# Altium footprint library bk_pcb.PcbLib: 19 footprints (part 1 of 2)
Each footprint in its own frame and in the unit in brackets; x right, y up, seen from the top. Pads: shape width x height; smd on the part's side, far side on the other; paste and mask are expansions set on the pad; w line width, h text height; cw(c..) or ccw(c..) is an arc to the next point about the centre after c.
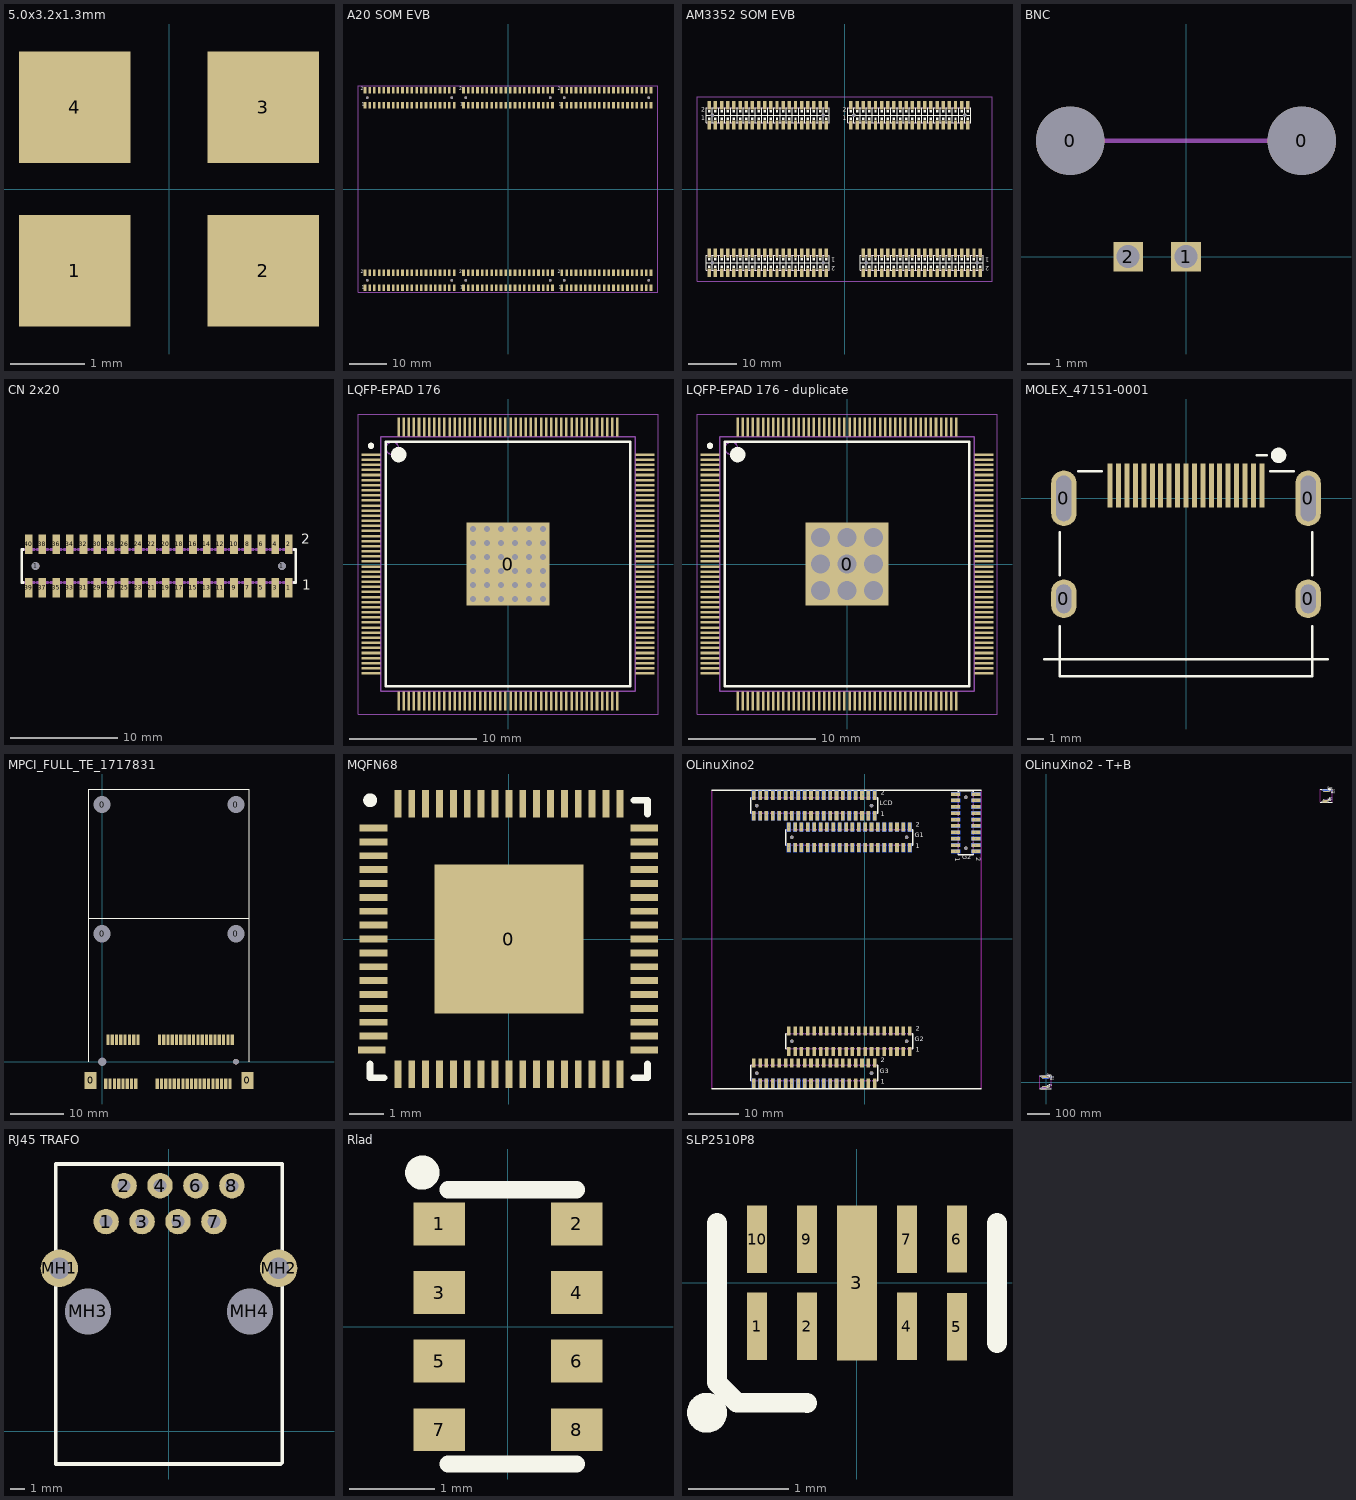
[diagram p0: the footprints below, top view; thin cyan lines are the x and y axes]

## 5.0x3.2x1.3mm [mm] "XTALL"
pads (4):
  rect 1.5x1.5 smd: 1(-1.27,-1.1) 2(1.27,-1.1) 3(1.27,1.1) 4(-1.27,1.1)
3D body: height 1.3, standoff 0, extent -2.5,-1.6 2.5,1.6

## A20 SOM EVB [mil] "A20 SOM EVB"
pads (252):
  round 28 hole 28: 1(-1500,-975) 1(-1500,975) 1(-600,-975) 1(-600,975) 1(-450,-975) 1(-450,975) 1(450,-975) 1(450,975) 1(600,-975) 1(600,975) 1(1500,-975) 1(1500,975)
  rect 28x71 smd: 1-1(-1525,-1055) 1-2(-1525,-895) 1-3(-1475,-1055) 1-4(-1475,-895) 1-5(-1425,-1055) 1-6(-1425,-895) 1-7(-1375,-1055) 1-8(-1375,-895) 1-9(-1325,-1055) 1-10(-1325,-895) 1-11(-1275,-1055) 1-12(-1275,-895) 1-13(-1225,-1055) 1-14(-1225,-895) 1-15(-1175,-1055) 1-16(-1175,-895) 1-17(-1125,-1055) 1-18(-1125,-895) 1-19(-1075,-1055) 1-20(-1075,-895) 1-21(-1025,-1055) 1-22(-1025,-895) 1-23(-975,-1055) 1-24(-975,-895) 1-25(-925,-1055) 1-26(-925,-895) 1-27(-875,-1055) 1-28(-875,-895) 1-29(-825,-1055) 1-30(-825,-895) 1-31(-775,-1055) 1-32(-775,-895) 1-33(-725,-1055) 1-34(-725,-895) 1-35(-675,-1055) 1-36(-675,-895) 1-37(-625,-1055) 1-38(-625,-895) 1-39(-575,-1055) 1-40(-575,-895) 2-1(-475,-1055) 2-2(-475,-895) 2-3(-425,-1055) 2-4(-425,-895) 2-5(-375,-1055) 2-6(-375,-895) 2-7(-325,-1055) 2-8(-325,-895) 2-9(-275,-1055) 2-10(-275,-895) 2-11(-225,-1055) 2-12(-225,-895) 2-13(-175,-1055) 2-14(-175,-895) 2-15(-125,-1055) 2-16(-125,-895) 2-17(-75,-1055) 2-18(-75,-895) 2-19(-25,-1055) 2-20(-25,-895) 2-21(25,-1055) 2-22(25,-895) 2-23(75,-1055) 2-24(75,-895) 2-25(125,-1055) 2-26(125,-895) 2-27(175,-1055) 2-28(175,-895) 2-29(225,-1055) 2-30(225,-895) 2-31(275,-1055) 2-32(275,-895) 2-33(325,-1055) 2-34(325,-895) 2-35(375,-1055) 2-36(375,-895) 2-37(425,-1055) 2-38(425,-895) 2-39(475,-1055) 2-40(475,-895) 3-1(575,895) 3-2(575,1055) 3-3(625,895) 3-4(625,1055) 3-5(675,895) 3-6(675,1055) 3-7(725,895) 3-8(725,1055) 3-9(775,895) 3-10(775,1055) 3-11(825,895) 3-12(825,1055) 3-13(875,895) 3-14(875,1055) 3-15(925,895) 3-16(925,1055) 3-17(975,895) 3-18(975,1055) 3-19(1025,895) 3-20(1025,1055) 3-21(1075,895) 3-22(1075,1055) 3-23(1125,895) 3-24(1125,1055) 3-25(1175,895) 3-26(1175,1055) 3-27(1225,895) 3-28(1225,1055) 3-29(1275,895) 3-30(1275,1055) 3-31(1325,895) 3-32(1325,1055) 3-33(1375,895) 3-34(1375,1055) 3-35(1425,895) 3-36(1425,1055) 3-37(1475,895) 3-38(1475,1055) 3-39(1525,895) 3-40(1525,1055) 4-1(-475,895) 4-2(-475,1055) 4-3(-425,895) 4-4(-425,1055) 4-5(-375,895) 4-6(-375,1055) 4-7(-325,895) 4-8(-325,1055) 4-9(-275,895) 4-10(-275,1055) 4-11(-225,895) 4-12(-225,1055) 4-13(-175,895) 4-14(-175,1055) 4-15(-125,895) 4-16(-125,1055) 4-17(-75,895) 4-18(-75,1055) 4-19(-25,895) 4-20(-25,1055) 4-21(25,895) 4-22(25,1055) 4-23(75,895) 4-24(75,1055) 4-25(125,895) 4-26(125,1055) 4-27(175,895) 4-28(175,1055) 4-29(225,895) 4-30(225,1055) 4-31(275,895) 4-32(275,1055) 4-33(325,895) 4-34(325,1055) 4-35(375,895) 4-36(375,1055) 4-37(425,895) 4-38(425,1055) 4-39(475,895) 4-40(475,1055) 5-1(-1525,895) 5-2(-1525,1055) 5-3(-1475,895) 5-4(-1475,1055) 5-5(-1425,895) 5-6(-1425,1055) 5-7(-1375,895) 5-8(-1375,1055) 5-9(-1325,895) 5-10(-1325,1055) 5-11(-1275,895) 5-12(-1275,1055) 5-13(-1225,895) 5-14(-1225,1055) 5-15(-1175,895) 5-16(-1175,1055) 5-17(-1125,895) 5-18(-1125,1055) 5-19(-1075,895) 5-20(-1075,1055) 5-21(-1025,895) 5-22(-1025,1055) 5-23(-975,895) 5-24(-975,1055) 5-25(-925,895) 5-26(-925,1055) 5-27(-875,895) 5-28(-875,1055) 5-29(-825,895) 5-30(-825,1055) 5-31(-775,895) 5-32(-775,1055) 5-33(-725,895) 5-34(-725,1055) 5-35(-675,895) 5-36(-675,1055) 5-37(-625,895) 5-38(-625,1055) 5-39(-575,895) 5-40(-575,1055) L-1(575,-1055) L-2(575,-895) L-3(625,-1055) L-4(625,-895) L-5(675,-1055) L-6(675,-895) L-7(725,-1055) L-8(725,-895) L-9(775,-1055) L-10(775,-895) L-11(825,-1055) L-12(825,-895) L-13(875,-1055) L-14(875,-895) L-15(925,-1055) L-16(925,-895) L-17(975,-1055) L-18(975,-895) L-19(1025,-1055) L-20(1025,-895) L-21(1075,-1055) L-22(1075,-895) L-23(1125,-1055) L-24(1125,-895) L-25(1175,-1055) L-26(1175,-895) L-27(1225,-1055) L-28(1225,-895) L-29(1275,-1055) L-30(1275,-895) L-31(1325,-1055) L-32(1325,-895) L-33(1375,-1055) L-34(1375,-895) L-35(1425,-1055) L-36(1425,-895) L-37(1475,-1055) L-38(1475,-895) L-39(1525,-1055) L-40(1525,-895)
Top Overlay:
  text "2" at 530,1035 h62
  text "1" at 540,870 h62
  text "2" at -520,1035 h62
  text "1" at -510,870 h62
  text "2" at -1570,1035 h62
  text "1" at -1560,870 h62
  text "2" at -1570,-915 h62
  text "1" at -1560,-1080 h62
  text "2" at -520,-915 h62
  text "1" at -510,-1080 h62
  text "1" at 540,-1080 h62
  text "2" at 530,-915 h62
Mechanical 16:
  lines w10: -1600,-1100 -1600,1100 1600,1100 1600,-1100 -1600,-1100
  text "A20 GPIO1" at -1525,-850 h62
  text "A20 GPIO4" at -475,800 h62
  text "A20 GPIO3" at 575,800 h62
  text "A20 GPIO2" at -475,-850 h62
  text "A20 SOM EVB" at -732.49,-100 h250
  text "A20 GPIO5" at -1525,800 h62
  text "A20 LCD" at 575,-850 h62

## AM3352 SOM EVB [mil] "AM3352-SOM-EVB"
pads (168):
  round 28 hole 28: 1(-1075,-600) 1(-1075,600) 1(-175,-600) 1(-175,600) 1(75,600) 1(175,-600) 1(975,600) 1(1075,-600)
  rect 28x71 smd: 1-1(-1100,520) 1-2(-1100,680) 1-3(-1050,520) 1-4(-1050,680) 1-5(-1000,520) 1-6(-1000,680) 1-7(-950,520) 1-8(-950,680) 1-9(-900,520) 1-10(-900,680) 1-11(-850,520) 1-12(-850,680) 1-13(-800,520) 1-14(-800,680) 1-15(-750,520) 1-16(-750,680) 1-17(-700,520) 1-18(-700,680) 1-19(-650,520) 1-20(-650,680) 1-21(-600,520) 1-22(-600,680) 1-23(-550,520) 1-24(-550,680) 1-25(-500,520) 1-26(-500,680) 1-27(-450,520) 1-28(-450,680) 1-29(-400,520) 1-30(-400,680) 1-31(-350,520) 1-32(-350,680) 1-33(-300,520) 1-34(-300,680) 1-35(-250,520) 1-36(-250,680) 1-37(-200,520) 1-38(-200,680) 1-39(-150,520) 1-40(-150,680) 2-1(50,520) 2-2(50,680) 2-3(100,520) 2-4(100,680) 2-5(150,520) 2-6(150,680) 2-7(200,520) 2-8(200,680) 2-9(250,520) 2-10(250,680) 2-11(300,520) 2-12(300,680) 2-13(350,520) 2-14(350,680) 2-15(400,520) 2-16(400,680) 2-17(450,520) 2-18(450,680) 2-19(500,520) 2-20(500,680) 2-21(550,520) 2-22(550,680) 2-23(600,520) 2-24(600,680) 2-25(650,520) 2-26(650,680) 2-27(700,520) 2-28(700,680) 2-29(750,520) 2-30(750,680) 2-31(800,520) 2-32(800,680) 2-33(850,520) 2-34(850,680) 2-35(900,520) 2-36(900,680) 2-37(950,520) 2-38(950,680) 2-39(1000,520) 2-40(1000,680) 3-1(1100,-520) 3-2(1100,-680) 3-3(1050,-520) 3-4(1050,-680) 3-5(1000,-520) 3-6(1000,-680) 3-7(950,-520) 3-8(950,-680) 3-9(900,-520) 3-10(900,-680) 3-11(850,-520) 3-12(850,-680) 3-13(800,-520) 3-14(800,-680) 3-15(750,-520) 3-16(750,-680) 3-17(700,-520) 3-18(700,-680) 3-19(650,-520) 3-20(650,-680) 3-21(600,-520) 3-22(600,-680) 3-23(550,-520) 3-24(550,-680) 3-25(500,-520) 3-26(500,-680) 3-27(450,-520) 3-28(450,-680) 3-29(400,-520) 3-30(400,-680) 3-31(350,-520) 3-32(350,-680) 3-33(300,-520) 3-34(300,-680) 3-35(250,-520) 3-36(250,-680) 3-37(200,-520) 3-38(200,-680) 3-39(150,-520) 3-40(150,-680) 4-1(-150,-520) 4-2(-150,-680) 4-3(-200,-520) 4-4(-200,-680) 4-5(-250,-520) 4-6(-250,-680) 4-7(-300,-520) 4-8(-300,-680) 4-9(-350,-520) 4-10(-350,-680) 4-11(-400,-520) 4-12(-400,-680) 4-13(-450,-520) 4-14(-450,-680) 4-15(-500,-520) 4-16(-500,-680) 4-17(-550,-520) 4-18(-550,-680) 4-19(-600,-520) 4-20(-600,-680) 4-21(-650,-520) 4-22(-650,-680) 4-23(-700,-520) 4-24(-700,-680) 4-25(-750,-520) 4-26(-750,-680) 4-27(-800,-520) 4-28(-800,-680) 4-29(-850,-520) 4-30(-850,-680) 4-31(-900,-520) 4-32(-900,-680) 4-33(-950,-520) 4-34(-950,-680) 4-35(-1000,-520) 4-36(-1000,-680) 4-37(-1050,-520) 4-38(-1050,-680) 4-39(-1100,-520) 4-40(-1100,-680)
Top Overlay:
  drawing of 724 lines, arcs and shapes, not listed
  text "2" at -75,-615 h62
  text "1" at -75,-545 h62
  text "2" at 1175,-615 h62
  text "1" at 1175,-545 h62
  text "2" at -15,615 h62
  text "1" at -15,545 h62
  text "2" at -1165,615 h62
  text "1" at -1165,545 h62
Mechanical 2:
  text "AM_CON-GPIO3" at -550,-475 h62
  text "AM_CON-GPIO2" at 700,-475 h62
  text "AM_CON-GPIO1" at 450,475 h62
  text "AM_CON-LCD" at -750,475 h62
Mechanical 4:
  text "GPH127SMT-02X20(PA-V16X-2X20-LF)" at -1100,-475 h24.8
  text "GPH127SMT-02X20(PA-V16X-2X20-LF)" at 150,-475 h24.8
  text "GPH127SMT-02X20(PA-V16X-2X20-LF)" at 1000,475 h24.8
Mechanical 16:
  drawing of 164 lines, arcs and shapes, not listed
  text "AM3352 SOM EVB" at -814.67,-100 h200

## BNC [mm]
pads (4):
  round 3 hole 3: 0(-5.08,5.08) 0(5.08,5.08)
  rect 1.3x1.3 hole 1: 1(0,0) 2(-2.54,0)
Mechanical 1:
  lines w0.2: -5.08,5.08 5.08,5.08
3D body: height 15.8, standoff -4.3, extent -7.35,-2 7.35,33.15

## CN 2x20 [mil] "1.27 mm"
pads (42):
  round 28 hole 28: 1(-49389.76,-49350.39) 1(-48489.76,-49350.39)
  rect 28x71 smd: 1(-48464.76,-49430.39) 2(-48464.76,-49270.39) 3(-48514.76,-49430.39) 4(-48514.76,-49270.39) 5(-48564.76,-49430.39) 6(-48564.76,-49270.39) 7(-48614.76,-49430.39) 8(-48614.76,-49270.39) 9(-48664.76,-49430.39) 10(-48664.76,-49270.39) 11(-48714.76,-49430.39) 12(-48714.76,-49270.39) 13(-48764.76,-49430.39) 14(-48764.76,-49270.39) 15(-48814.76,-49430.39) 16(-48814.76,-49270.39) 17(-48864.76,-49430.39) 18(-48864.76,-49270.39) 19(-48914.76,-49430.39) 20(-48914.76,-49270.39) 21(-48964.76,-49430.39) 22(-48964.76,-49270.39) 23(-49014.76,-49430.39) 24(-49014.76,-49270.39) 25(-49064.76,-49430.39) 26(-49064.76,-49270.39) 27(-49114.76,-49430.39) 28(-49114.76,-49270.39) 29(-49164.76,-49430.39) 30(-49164.76,-49270.39) 31(-49214.76,-49430.39) 32(-49214.76,-49270.39) 33(-49264.76,-49430.39) 34(-49264.76,-49270.39) 35(-49314.76,-49430.39) 36(-49314.76,-49270.39) 37(-49364.76,-49430.39) 38(-49364.76,-49270.39) 39(-49414.76,-49430.39) 40(-49414.76,-49270.39)
Top Overlay:
  lines w10: -49434.76,-49410.39 -49439.76,-49410.39 -49439.76,-49350.39 -49439.76,-49290.39 -49434.76,-49290.39 ; -48444.76,-49410.39 -48439.76,-49410.39 -48439.76,-49350.39 -48439.76,-49290.39 -48444.76,-49290.39
  text "2" at -48418.54,-49282.48 h62
  text "1" at -48416.57,-49449.8 h62
Mechanical 16:
  lines w10: -49434.76,-49410.39 -49394.76,-49410.39 ; -49434.76,-49290.39 -49394.76,-49290.39 ; -49384.76,-49410.39 -49344.76,-49410.39 ; -49384.76,-49290.39 -49344.76,-49290.39 ; -49334.76,-49410.39 -49294.76,-49410.39 ; -49334.76,-49290.39 -49294.76,-49290.39 ; -49284.76,-49410.39 -49244.76,-49410.39 ; -49284.76,-49290.39 -49244.76,-49290.39 ; -49234.76,-49410.39 -49194.76,-49410.39 ; -49234.76,-49290.39 -49194.76,-49290.39 ; -49184.76,-49410.39 -49144.76,-49410.39 ; -49184.76,-49290.39 -49144.76,-49290.39 ; -49134.76,-49410.39 -49094.76,-49410.39 ; -49134.76,-49290.39 -49094.76,-49290.39 ; -49084.76,-49410.39 -49044.76,-49410.39 ; -49084.76,-49290.39 -49044.76,-49290.39 ; -49034.76,-49410.39 -48994.76,-49410.39 ; -49034.76,-49290.39 -48994.76,-49290.39 ; -48984.76,-49410.39 -48944.76,-49410.39 ; -48984.76,-49290.39 -48944.76,-49290.39 ; -48934.76,-49410.39 -48894.76,-49410.39 ; -48934.76,-49290.39 -48894.76,-49290.39 ; -48884.76,-49410.39 -48844.76,-49410.39 ; -48884.76,-49290.39 -48844.76,-49290.39 ; -48834.76,-49410.39 -48794.76,-49410.39 ; -48834.76,-49290.39 -48794.76,-49290.39 ; -48784.76,-49410.39 -48744.76,-49410.39 ; -48784.76,-49290.39 -48744.76,-49290.39 ; -48734.76,-49410.39 -48694.76,-49410.39 ; -48734.76,-49290.39 -48694.76,-49290.39 ; -48684.76,-49410.39 -48644.76,-49410.39 ; -48684.76,-49290.39 -48644.76,-49290.39 ; -48634.76,-49410.39 -48594.76,-49410.39 ; -48634.76,-49290.39 -48594.76,-49290.39 ; -48584.76,-49410.39 -48544.76,-49410.39 ; -48584.76,-49290.39 -48544.76,-49290.39 ; -48534.76,-49410.39 -48494.76,-49410.39 ; -48534.76,-49290.39 -48494.76,-49290.39 ; -48484.76,-49410.39 -48444.76,-49410.39 ; -48484.76,-49290.39 -48444.76,-49290.39

## LQFP176 [mil]

## LQFP-EPAD 176 [mm] "TSQFP, 176-Leads, Body 20,00x20,00mm, Pitch 0,40mm, Thermal Pad 6,50x6,50mm, IPC Medium Density"
height 1.6
pads (177):
  rect 6.5x6.5 smd: 0(0,0)
  rect 1.5x0.2 smd: 1(-10.775,8.6) 2(-10.775,8.2) 3(-10.775,7.8) 4(-10.775,7.4) 5(-10.775,7) 6(-10.775,6.6) 7(-10.775,6.2) 8(-10.775,5.8) 9(-10.775,5.4) 10(-10.775,5) 11(-10.775,4.6) 12(-10.775,4.2) 13(-10.775,3.8) 14(-10.775,3.4) 15(-10.775,3) 16(-10.775,2.6) 17(-10.775,2.2) 18(-10.775,1.8) 19(-10.775,1.4) 20(-10.775,1) 21(-10.775,0.6) 22(-10.775,0.2) 23(-10.775,-0.2) 24(-10.775,-0.6) 25(-10.775,-1) 26(-10.775,-1.4) 27(-10.775,-1.8) 28(-10.775,-2.2) 29(-10.775,-2.6) 30(-10.775,-3) 31(-10.775,-3.4) 32(-10.775,-3.8) 33(-10.775,-4.2) 34(-10.775,-4.6) 35(-10.775,-5) 36(-10.775,-5.4) 37(-10.775,-5.8) 38(-10.775,-6.2) 39(-10.775,-6.6) 40(-10.775,-7) 41(-10.775,-7.4) 42(-10.775,-7.8) 43(-10.775,-8.2) 44(-10.775,-8.6) 89(10.775,-8.6) 90(10.775,-8.2) 91(10.775,-7.8) 92(10.775,-7.4) 93(10.775,-7) 94(10.775,-6.6) 95(10.775,-6.2) 96(10.775,-5.8) 97(10.775,-5.4) 98(10.775,-5) 99(10.775,-4.6) 100(10.775,-4.2) 101(10.775,-3.8) 102(10.775,-3.4) 103(10.775,-3) 104(10.775,-2.6) 105(10.775,-2.2) 106(10.775,-1.8) 107(10.775,-1.4) 108(10.775,-1) 109(10.775,-0.6) 110(10.775,-0.2) 111(10.775,0.2) 112(10.775,0.6) 113(10.775,1) 114(10.775,1.4) 115(10.775,1.8) 116(10.775,2.2) 117(10.775,2.6) 118(10.775,3) 119(10.775,3.4) 120(10.775,3.8) 121(10.775,4.2) 122(10.775,4.6) 123(10.775,5) 124(10.775,5.4) 125(10.775,5.8) 126(10.775,6.2) 127(10.775,6.6) 128(10.775,7) 129(10.775,7.4) 130(10.775,7.8) 131(10.775,8.2) 132(10.775,8.6)
  rect 0.2x1.5 smd: 45(-8.6,-10.775) 46(-8.2,-10.775) 47(-7.8,-10.775) 48(-7.4,-10.775) 49(-7,-10.775) 50(-6.6,-10.775) 51(-6.2,-10.775) 52(-5.8,-10.775) 53(-5.4,-10.775) 54(-5,-10.775) 55(-4.6,-10.775) 56(-4.2,-10.775) 57(-3.8,-10.775) 58(-3.4,-10.775) 59(-3,-10.775) 60(-2.6,-10.775) 61(-2.2,-10.775) 62(-1.8,-10.775) 63(-1.4,-10.775) 64(-1,-10.775) 65(-0.6,-10.775) 66(-0.2,-10.775) 67(0.2,-10.775) 68(0.6,-10.775) 69(1,-10.775) 70(1.4,-10.775) 71(1.8,-10.775) 72(2.2,-10.775) 73(2.6,-10.775) 74(3,-10.775) 75(3.4,-10.775) 76(3.8,-10.775) 77(4.2,-10.775) 78(4.6,-10.775) 79(5,-10.775) 80(5.4,-10.775) 81(5.8,-10.775) 82(6.2,-10.775) 83(6.6,-10.775) 84(7,-10.775) 85(7.4,-10.775) 86(7.8,-10.775) 87(8.2,-10.775) 88(8.6,-10.775) 133(8.6,10.775) 134(8.2,10.775) 135(7.8,10.775) 136(7.4,10.775) 137(7,10.775) 138(6.6,10.775) 139(6.2,10.775) 140(5.8,10.775) 141(5.4,10.775) 142(5,10.775) 143(4.6,10.775) 144(4.2,10.775) 145(3.8,10.775) 146(3.4,10.775) 147(3,10.775) 148(2.6,10.775) 149(2.2,10.775) 150(1.8,10.775) 151(1.4,10.775) 152(1,10.775) 153(0.6,10.775) 154(0.2,10.775) 155(-0.2,10.775) 156(-0.6,10.775) 157(-1,10.775) 158(-1.4,10.775) 159(-1.8,10.775) 160(-2.2,10.775) 161(-2.6,10.775) 162(-3,10.775) 163(-3.4,10.775) 164(-3.8,10.775) 165(-4.2,10.775) 166(-4.6,10.775) 167(-5,10.775) 168(-5.4,10.775) 169(-5.8,10.775) 170(-6.2,10.775) 171(-6.6,10.775) 172(-7,10.775) 173(-7.4,10.775) 174(-7.8,10.775) 175(-8.2,10.775) 176(-8.6,10.775)
via -2.75,2.75 diameter 0.8 hole 0.5
via -1.65,2.75 diameter 0.8 hole 0.5
via -0.55,2.75 diameter 0.8 hole 0.5
via 0.55,2.75 diameter 0.8 hole 0.5
via 1.65,2.75 diameter 0.8 hole 0.5
via 2.75,2.75 diameter 0.8 hole 0.5
via -2.75,1.65 diameter 0.8 hole 0.5
via -1.65,1.65 diameter 0.8 hole 0.5
via -0.55,1.65 diameter 0.8 hole 0.5
via 0.55,1.65 diameter 0.8 hole 0.5
via 1.65,1.65 diameter 0.8 hole 0.5
via 2.75,1.65 diameter 0.8 hole 0.5
via -2.75,0.55 diameter 0.8 hole 0.5
via -1.65,0.55 diameter 0.8 hole 0.5
via -0.55,0.55 diameter 0.8 hole 0.5
via 0.55,0.55 diameter 0.8 hole 0.5
via 1.65,0.55 diameter 0.8 hole 0.5
via 2.75,0.55 diameter 0.8 hole 0.5
via -2.75,-0.55 diameter 0.8 hole 0.5
via -1.65,-0.55 diameter 0.8 hole 0.5
via -0.55,-0.55 diameter 0.8 hole 0.5
via 0.55,-0.55 diameter 0.8 hole 0.5
via 1.65,-0.55 diameter 0.8 hole 0.5
via 2.75,-0.55 diameter 0.8 hole 0.5
via -2.75,-1.65 diameter 0.8 hole 0.5
via -1.65,-1.65 diameter 0.8 hole 0.5
via -0.55,-1.65 diameter 0.8 hole 0.5
via 0.55,-1.65 diameter 0.8 hole 0.5
via 1.65,-1.65 diameter 0.8 hole 0.5
via 2.75,-1.65 diameter 0.8 hole 0.5
via -2.75,-2.75 diameter 0.8 hole 0.5
via -1.65,-2.75 diameter 0.8 hole 0.5
via -0.55,-2.75 diameter 0.8 hole 0.5
via 0.55,-2.75 diameter 0.8 hole 0.5
via 1.65,-2.75 diameter 0.8 hole 0.5
via 2.75,-2.75 diameter 0.8 hole 0.5
Top Overlay:
  circle w0.25: c-10.775,9.3 r0.125
  circle w0.6: c-8.6,8.6 r0.3
  lines w0.2: -9.6,-9.6 -9.6,9.6 9.6,9.6 9.6,-9.6 -9.6,-9.6
Mechanical 13:
  circle w0.1: c-9.1,9.1 r0.5
  lines w0.1: -10,-10 -10,10 10,10 10,-10 -10,-10
Mechanical 15:
  lines w0.05: -11.8,-11.8 -11.8,11.8 11.8,11.8 11.8,-11.8 -11.8,-11.8
  lines w0.1: -0.5,0 0.5,0 ; 0,-0.5 0,0.5
3D body: height 1.6, standoff 0.05, extent -10,-10 10,10

## LQFP-EPAD 176 - duplicate [mm] "TSQFP, 176-Leads, Body 20,00x20,00mm, Pitch 0,40mm, Thermal Pad 6,50x6,50mm, IPC Medium Density"
height 1.6
pads (177):
  rect 6.5x6.5 smd: 0(0,0)
  rect 1.5x0.2 smd: 1(-10.775,8.6) 2(-10.775,8.2) 3(-10.775,7.8) 4(-10.775,7.4) 5(-10.775,7) 6(-10.775,6.6) 7(-10.775,6.2) 8(-10.775,5.8) 9(-10.775,5.4) 10(-10.775,5) 11(-10.775,4.6) 12(-10.775,4.2) 13(-10.775,3.8) 14(-10.775,3.4) 15(-10.775,3) 16(-10.775,2.6) 17(-10.775,2.2) 18(-10.775,1.8) 19(-10.775,1.4) 20(-10.775,1) 21(-10.775,0.6) 22(-10.775,0.2) 23(-10.775,-0.2) 24(-10.775,-0.6) 25(-10.775,-1) 26(-10.775,-1.4) 27(-10.775,-1.8) 28(-10.775,-2.2) 29(-10.775,-2.6) 30(-10.775,-3) 31(-10.775,-3.4) 32(-10.775,-3.8) 33(-10.775,-4.2) 34(-10.775,-4.6) 35(-10.775,-5) 36(-10.775,-5.4) 37(-10.775,-5.8) 38(-10.775,-6.2) 39(-10.775,-6.6) 40(-10.775,-7) 41(-10.775,-7.4) 42(-10.775,-7.8) 43(-10.775,-8.2) 44(-10.775,-8.6) 89(10.775,-8.6) 90(10.775,-8.2) 91(10.775,-7.8) 92(10.775,-7.4) 93(10.775,-7) 94(10.775,-6.6) 95(10.775,-6.2) 96(10.775,-5.8) 97(10.775,-5.4) 98(10.775,-5) 99(10.775,-4.6) 100(10.775,-4.2) 101(10.775,-3.8) 102(10.775,-3.4) 103(10.775,-3) 104(10.775,-2.6) 105(10.775,-2.2) 106(10.775,-1.8) 107(10.775,-1.4) 108(10.775,-1) 109(10.775,-0.6) 110(10.775,-0.2) 111(10.775,0.2) 112(10.775,0.6) 113(10.775,1) 114(10.775,1.4) 115(10.775,1.8) 116(10.775,2.2) 117(10.775,2.6) 118(10.775,3) 119(10.775,3.4) 120(10.775,3.8) 121(10.775,4.2) 122(10.775,4.6) 123(10.775,5) 124(10.775,5.4) 125(10.775,5.8) 126(10.775,6.2) 127(10.775,6.6) 128(10.775,7) 129(10.775,7.4) 130(10.775,7.8) 131(10.775,8.2) 132(10.775,8.6)
  rect 0.2x1.5 smd: 45(-8.6,-10.775) 46(-8.2,-10.775) 47(-7.8,-10.775) 48(-7.4,-10.775) 49(-7,-10.775) 50(-6.6,-10.775) 51(-6.2,-10.775) 52(-5.8,-10.775) 53(-5.4,-10.775) 54(-5,-10.775) 55(-4.6,-10.775) 56(-4.2,-10.775) 57(-3.8,-10.775) 58(-3.4,-10.775) 59(-3,-10.775) 60(-2.6,-10.775) 61(-2.2,-10.775) 62(-1.8,-10.775) 63(-1.4,-10.775) 64(-1,-10.775) 65(-0.6,-10.775) 66(-0.2,-10.775) 67(0.2,-10.775) 68(0.6,-10.775) 69(1,-10.775) 70(1.4,-10.775) 71(1.8,-10.775) 72(2.2,-10.775) 73(2.6,-10.775) 74(3,-10.775) 75(3.4,-10.775) 76(3.8,-10.775) 77(4.2,-10.775) 78(4.6,-10.775) 79(5,-10.775) 80(5.4,-10.775) 81(5.8,-10.775) 82(6.2,-10.775) 83(6.6,-10.775) 84(7,-10.775) 85(7.4,-10.775) 86(7.8,-10.775) 87(8.2,-10.775) 88(8.6,-10.775) 133(8.6,10.775) 134(8.2,10.775) 135(7.8,10.775) 136(7.4,10.775) 137(7,10.775) 138(6.6,10.775) 139(6.2,10.775) 140(5.8,10.775) 141(5.4,10.775) 142(5,10.775) 143(4.6,10.775) 144(4.2,10.775) 145(3.8,10.775) 146(3.4,10.775) 147(3,10.775) 148(2.6,10.775) 149(2.2,10.775) 150(1.8,10.775) 151(1.4,10.775) 152(1,10.775) 153(0.6,10.775) 154(0.2,10.775) 155(-0.2,10.775) 156(-0.6,10.775) 157(-1,10.775) 158(-1.4,10.775) 159(-1.8,10.775) 160(-2.2,10.775) 161(-2.6,10.775) 162(-3,10.775) 163(-3.4,10.775) 164(-3.8,10.775) 165(-4.2,10.775) 166(-4.6,10.775) 167(-5,10.775) 168(-5.4,10.775) 169(-5.8,10.775) 170(-6.2,10.775) 171(-6.6,10.775) 172(-7,10.775) 173(-7.4,10.775) 174(-7.8,10.775) 175(-8.2,10.775) 176(-8.6,10.775)
via 2.1,-2.1 diameter 2 hole 1.5
via 2.1,0 diameter 2 hole 1.5
via 2.1,2.1 diameter 2 hole 1.5
via 0,2.1 diameter 2 hole 1.5
via 0,0 diameter 2 hole 1.5
via 0,-2.1 diameter 2 hole 1.5
via -2.1,-2.1 diameter 2 hole 1.5
via -2.1,0 diameter 2 hole 1.5
via -2.1,2.1 diameter 2 hole 1.5
Top Overlay:
  circle w0.25: c-10.775,9.3 r0.125
  circle w0.6: c-8.6,8.6 r0.3
  lines w0.2: -9.6,-9.6 -9.6,9.6 9.6,9.6 9.6,-9.6 -9.6,-9.6
Mechanical 13:
  circle w0.1: c-9.1,9.1 r0.5
  lines w0.1: -10,-10 -10,10 10,10 10,-10 -10,-10
Mechanical 15:
  lines w0.05: -11.8,-11.8 -11.8,11.8 11.8,11.8 11.8,-11.8 -11.8,-11.8
  lines w0.1: -0.5,0 0.5,0 ; 0,-0.5 0,0.5
3D body: height 1.6, standoff 0.05, extent -10,-10 10,10

## MOLEX_47151-0001 [mm] "Molex HDMI right angle header assembly"
height 6.2
pads (23):
  oval 1.5x2.3 hole 0.9 slot 1.7 at 90 deg mask+0.07: 0(-7.25,-5.96) 0(7.25,-5.96)
  oval 1.5x3.3 hole 0.9 slot 2.7 at 90 deg mask+0.07: 0(-7.25,0) 0(7.25,0)
  rect 0.3x2.6 smd mask+0.07: 1(4.5,0.76) 2(4,0.76) 3(3.5,0.76) 4(3,0.76) 5(2.5,0.76) 6(2,0.76) 7(1.5,0.76) 8(1,0.76) 9(0.5,0.76) 10(0,0.76) 11(-0.5,0.76) 12(-1,0.76) 13(-1.5,0.76) 14(-2,0.76) 15(-2.5,0.76) 16(-3,0.76) 17(-3.5,0.76) 18(-4,0.76) 19(-4.5,0.76)
Top Overlay:
  circle w0.5: c5.494,2.55 r0.206
  lines w0.15: -8.4,-9.55 8.4,-9.55 ; -7.5,-7.6 -7.5,-10.55 7.5,-10.55 7.5,-7.6 ; -7.5,-4.55 -7.5,-2 ; -6.4,1.6 -5,1.6 ; 4.2,2.55 4.8,2.55 ; 5,1.6 6.4,1.6 ; 7.5,-4.55 7.5,-2
3D body: height 6.18, standoff -2.2, extent -7.5,-10.55 7.5,1.6

## MPCI_FULL_TE_1717831 [mm] "Mini PCI-express full-length card"
height 4
pads (60):
  rect 2.3x3.2 smd mask+0.07: 0(-2.15,-3.5) 0(27.15,-3.5)
  round 1 hole 1.6 unplated mask+0.07: 0(0,0)
  round 2 hole 3.2 unplated mask+0.07: 0(0,23.9) 0(0,48.05) 0(25,23.9) 0(25,48.05)
  round 1 hole 1.1 unplated mask+0.07: 0(25,0)
  rect 0.6x2 smd mask+0.07: 1(0.7,-4.1) 2(1.1,4.1) 3(1.5,-4.1) 4(1.9,4.1) 5(2.3,-4.1) 6(2.7,4.1) 7(3.1,-4.1) 8(3.5,4.1) 9(3.9,-4.1) 10(4.3,4.1) 11(4.7,-4.1) 12(5.1,4.1) 13(5.5,-4.1) 14(5.9,4.1) 15(6.3,-4.1) 16(6.7,4.1) 17(10.3,-4.1) 18(10.7,4.1) 19(11.1,-4.1) 20(11.5,4.1) 21(11.9,-4.1) 22(12.3,4.1) 23(12.7,-4.1) 24(13.1,4.1) 25(13.5,-4.1) 26(13.9,4.1) 27(14.3,-4.1) 28(14.7,4.1) 29(15.1,-4.1) 30(15.5,4.1) 31(15.9,-4.1) 32(16.3,4.1) 33(16.7,-4.1) 34(17.1,4.1) 35(17.5,-4.1) 36(17.9,4.1) 37(18.3,-4.1) 38(18.7,4.1) 39(19.1,-4.1) 40(19.5,4.1) 41(19.9,-4.1) 42(20.3,4.1) 43(20.7,-4.1) 44(21.1,4.1) 45(21.5,-4.1) 46(21.9,4.1) 47(22.3,-4.1) 48(22.7,4.1) 49(23.1,-4.1) 50(23.5,4.1) 51(23.9,-4.1) 52(24.3,4.1)
Top Overlay:
  lines w0.2: -2.5,50.95 27.5,50.95
  lines w0.203: -2.5,0 -2.5,50.95 ; -2.5,26.8 27.5,26.8 ; 5.4,26.8 13.475,26.8 ; 27.5,0 27.5,50.95
3D body: height 3.95, standoff -0.75, extent -2.5,-5 27.5,4.5

## MQFN68 [mm]
height 0.2
pads (69):
  rect 4.3x4.3 smd: 0(0,0)
  rect 0.8x0.2 smd mask+0.051: 1(-3.9,3.2) 2(-3.9,2.8) 3(-3.9,2.4) 4(-3.9,2) 5(-3.9,1.6) 6(-3.9,1.2) 7(-3.9,0.8) 8(-3.9,0.4) 9(-3.9,0) 10(-3.9,-0.4) 11(-3.9,-0.8) 12(-3.9,-1.2) 13(-3.9,-1.6) 14(-3.9,-2) 15(-3.9,-2.4) 16(-3.9,-2.8) 17(-3.95,-3.2) 35(3.9,-3.2) 36(3.9,-2.8) 37(3.9,-2.4) 38(3.9,-2) 39(3.9,-1.6) 40(3.9,-1.2) 41(3.9,-0.8) 42(3.9,-0.4) 43(3.9,0) 44(3.9,0.4) 45(3.9,0.8) 46(3.9,1.2) 47(3.9,1.6) 48(3.9,2) 49(3.9,2.4) 50(3.9,2.8) 51(3.9,3.2)
  rect 0.2x0.8 smd mask+0.051: 18(-3.2,-3.9) 19(-2.8,-3.9) 20(-2.4,-3.9) 21(-2,-3.9) 22(-1.6,-3.9) 23(-1.2,-3.9) 24(-0.8,-3.9) 25(-0.4,-3.9) 26(0,-3.9) 27(0.4,-3.9) 28(0.8,-3.9) 29(1.2,-3.9) 30(1.6,-3.9) 31(2,-3.9) 32(2.4,-3.9) 33(2.8,-3.9) 34(3.2,-3.9) 52(3.2,3.9) 53(2.8,3.9) 54(2.4,3.9) 55(2,3.9) 56(1.6,3.9) 57(1.2,3.9) 58(0.8,3.9) 59(0.4,3.9) 60(0,3.9) 61(-0.4,3.9) 62(-0.8,3.9) 63(-1.2,3.9) 64(-1.6,3.9) 65(-2,3.9) 66(-2.4,3.9) 67(-2.8,3.9) 68(-3.2,3.9)
Top Overlay:
  circle w0.2: c-4,4 r0.1
  lines w0.2: -4,-3.6 -4,-4 -3.6,-4 ; 3.6,-4 4,-4 4,-3.6 ; 3.6,4 4,4 4,3.6
3D body: height 0.9, standoff 0, extent -4,-4 4,4

## OLinuXino2 [mil] "Olinuxino inner dimension"
pads (420):
  round 28 hole 28: 1(-847.5,-1055) 1(-847.5,1045) 1(-572.5,-805) 1(-572.5,795) 1(52.5,-1055) 1(52.5,1045) 1(327.5,-805) 1(327.5,795) 1(792.5,710) 1(792.5,1110)
  round 19.68 hole 11.81: 1-1(352.5,715) 1-2(352.5,875) 1-3(302.5,715) 1-4(302.5,875) 1-5(252.5,715) 1-6(252.5,875) 1-7(202.5,715) 1-8(202.5,875) 1-9(152.5,715) 1-10(152.5,875) 1-11(102.5,715) 1-12(102.5,875) 1-13(52.5,715) 1-14(52.5,875) 1-15(2.5,715) 1-16(2.5,875) 1-17(-47.5,715) 1-18(-47.5,875) 1-19(-97.5,715) 1-20(-97.5,875) 1-21(-147.5,715) 1-22(-147.5,875) 1-23(-197.5,715) 1-24(-197.5,875) 1-25(-247.5,715) 1-26(-247.5,875) 1-27(-297.5,715) 1-28(-297.5,875) 1-29(-347.5,715) 1-30(-347.5,875) 1-31(-397.5,715) 1-32(-397.5,875) 1-33(-447.5,715) 1-34(-447.5,875) 1-35(-497.5,715) 1-36(-497.5,875) 1-37(-547.5,715) 1-38(-547.5,875) 1-39(-597.5,715) 1-40(-597.5,875) 3-11(-172.5,-1135) 3-13(-222.5,-1135) 3-15(-272.5,-1135) 3-17(-322.5,-1135) 3-19(-372.5,-1135) 3-21(-422.5,-1135) 3-23(-472.5,-1135) 3-25(-522.5,-1135) 3-27(-572.5,-1135) 3-29(-622.5,-1135) 3-31(-672.5,-1135) 3-33(-722.5,-1135) 3-35(-772.5,-1135) 3-37(-822.5,-1135) 3-39(-872.5,-1135) 4-1(712.5,685) 4-2(872.5,685) 4-3(712.5,735) 4-4(872.5,735) 4-5(712.5,785) 4-6(872.5,785) 4-7(712.5,835) 4-8(872.5,835) 4-9(712.5,885) 4-10(872.5,885) 4-11(712.5,935) 4-12(872.5,935) 4-13(712.5,985) 4-14(872.5,985) 4-15(712.5,1035) 4-16(872.5,1035) 4-17(712.5,1085) 4-18(872.5,1085) 4-19(712.5,1135) 4-20(872.5,1135) LCD-1(77.5,965) LCD-2(77.5,1125) LCD-3(27.5,965) LCD-4(27.5,1125) LCD-5(-22.5,965) LCD-6(-15.75,1129.92) LCD-7(-72.5,965) LCD-8(-72.5,1125) LCD-9(-122.5,965) LCD-10(-122.5,1125) LCD-11(-172.5,965) LCD-12(-172.5,1125) LCD-13(-222.5,965) LCD-14(-222.5,1125) LCD-15(-272.5,965) LCD-16(-272.5,1125) LCD-17(-322.5,965) LCD-18(-322.5,1125) LCD-19(-372.5,965) LCD-20(-372.5,1125) LCD-21(-422.5,965) LCD-22(-422.5,1125) LCD-23(-472.5,965) LCD-24(-472.5,1125) LCD-25(-522.5,965) LCD-26(-522.5,1125) LCD-27(-572.5,965) LCD-28(-572.5,1125) LCD-29(-622.5,965) LCD-30(-622.5,1125) LCD-31(-672.5,965) LCD-32(-672.5,1125) LCD-33(-722.5,965) LCD-34(-722.5,1125) LCD-35(-772.5,965) LCD-36(-772.5,1125) LCD-37(-822.5,965) LCD-38(-822.5,1125) LCD-39(-872.5,965) LCD-40(-872.5,1125)
  rect 28x71 smd: 1-1(352.5,715) 1-2(352.5,875) 1-3(302.5,715) 1-4(302.5,875) 1-5(252.5,715) 1-6(252.5,875) 1-7(202.5,715) 1-8(202.5,875) 1-9(152.5,715) 1-10(152.5,875) 1-11(102.5,715) 1-12(102.5,875) 1-13(52.5,715) 1-14(52.5,875) 1-15(2.5,715) 1-16(2.5,875) 1-17(-47.5,715) 1-18(-47.5,875) 1-19(-97.5,715) 1-20(-97.5,875) 1-21(-147.5,715) 1-22(-147.5,875) 1-23(-197.5,715) 1-24(-197.5,875) 1-25(-247.5,715) 1-26(-247.5,875) 1-27(-297.5,715) 1-28(-297.5,875) 1-29(-347.5,715) 1-30(-347.5,875) 1-31(-397.5,715) 1-32(-397.5,875) 1-33(-447.5,715) 1-34(-447.5,875) 1-35(-497.5,715) 1-36(-497.5,875) 1-37(-547.5,715) 1-38(-547.5,875) 1-39(-597.5,715) 1-40(-597.5,875) 2-1(352.5,-885) 2-2(352.5,-725) 2-3(302.5,-885) 2-4(302.5,-725) 2-5(252.5,-885) 2-6(252.5,-725) 2-7(202.5,-885) 2-8(202.5,-725) 2-9(152.5,-885) 2-10(152.5,-725) 2-11(102.5,-885) 2-12(102.5,-725) 2-13(52.5,-885) 2-14(52.5,-725) 2-15(2.5,-885) 2-16(2.5,-725) 2-17(-47.5,-885) 2-18(-47.5,-725) 2-19(-97.5,-885) 2-20(-97.5,-725) 2-21(-147.5,-885) 2-22(-147.5,-725) 2-23(-197.5,-885) 2-24(-197.5,-725) 2-25(-247.5,-885) 2-26(-247.5,-725) 2-27(-297.5,-885) 2-28(-297.5,-725) 2-29(-347.5,-885) 2-30(-347.5,-725) 2-31(-397.5,-885) 2-32(-397.5,-725) 2-33(-447.5,-885) 2-34(-447.5,-725) 2-35(-497.5,-885) 2-36(-497.5,-725) 2-37(-547.5,-885) 2-38(-547.5,-725) 2-39(-597.5,-885) 2-40(-597.5,-725) 3-1(77.5,-1135) 3-2(77.5,-975) 3-3(27.5,-1135) 3-4(27.5,-975) 3-5(-22.5,-1135) 3-6(-22.5,-975) 3-7(-72.5,-1135) 3-8(-72.5,-975) 3-9(-122.5,-1135) 3-10(-122.5,-975) 3-11(-172.5,-1135) 3-12(-172.5,-975) 3-13(-222.5,-1135) 3-14(-222.5,-975) 3-15(-272.5,-1135) 3-16(-272.5,-975) 3-17(-322.5,-1135) 3-18(-322.5,-975) 3-19(-372.5,-1135) 3-20(-372.5,-975) 3-21(-422.5,-1135) 3-22(-422.5,-975) 3-23(-472.5,-1135) 3-24(-472.5,-975) 3-25(-522.5,-1135) 3-26(-522.5,-975) 3-27(-572.5,-1135) 3-28(-572.5,-975) 3-29(-622.5,-1135) 3-30(-622.5,-975) 3-31(-672.5,-1135) 3-32(-672.5,-975) 3-33(-722.5,-1135) 3-34(-722.5,-975) 3-35(-772.5,-1135) 3-36(-772.5,-975) 3-37(-822.5,-1135) 3-38(-822.5,-975) 3-39(-872.5,-1135) 3-40(-872.5,-975) LCD-1(77.5,965) LCD-2(77.5,1125) LCD-3(27.5,965) LCD-4(27.5,1125) LCD-5(-22.5,965) LCD-6(-22.5,1125) LCD-7(-72.5,965) LCD-8(-72.5,1125) LCD-9(-122.5,965) LCD-10(-122.5,1125) LCD-11(-172.5,965) LCD-12(-172.5,1125) LCD-13(-222.5,965) LCD-14(-222.5,1125) LCD-15(-272.5,965) LCD-16(-272.5,1125) LCD-17(-322.5,965) LCD-18(-322.5,1125) LCD-19(-372.5,965) LCD-20(-372.5,1125) LCD-21(-422.5,965) LCD-22(-422.5,1125) LCD-23(-472.5,965) LCD-24(-472.5,1125) LCD-25(-522.5,965) LCD-26(-522.5,1125) LCD-27(-572.5,965) LCD-28(-572.5,1125) LCD-29(-622.5,965) LCD-30(-622.5,1125) LCD-31(-672.5,965) LCD-32(-672.5,1125) LCD-33(-722.5,965) LCD-34(-722.5,1125) LCD-35(-772.5,965) LCD-36(-772.5,1125) LCD-37(-822.5,965) LCD-38(-822.5,1125) LCD-39(-872.5,965) LCD-40(-872.5,1125)
  rect 28x71 smd far side: 1-1(352.5,715) 1-2(352.5,875) 1-3(302.5,715) 1-4(302.5,875) 1-5(252.5,715) 1-6(252.5,875) 1-7(202.5,715) 1-8(202.5,875) 1-9(152.5,715) 1-10(152.5,875) 1-11(102.5,715) 1-12(102.5,875) 1-13(52.5,715) 1-14(52.5,875) 1-15(2.5,715) 1-16(2.5,875) 1-17(-47.5,715) 1-18(-47.5,875) 1-19(-97.5,715) 1-20(-97.5,875) 1-21(-147.5,715) 1-22(-147.5,875) 1-23(-197.5,715) 1-24(-197.5,875) 1-25(-247.5,715) 1-26(-247.5,875) 1-27(-297.5,715) 1-28(-297.5,875) 1-29(-347.5,715) 1-30(-347.5,875) 1-31(-397.5,715) 1-32(-397.5,875) 1-33(-447.5,715) 1-34(-447.5,875) 1-35(-497.5,715) 1-36(-497.5,875) 1-37(-547.5,715) 1-38(-547.5,875) 1-39(-597.5,715) 1-40(-597.5,875) 3-11(-172.5,-1135) 3-13(-222.5,-1135) 3-15(-272.5,-1135) 3-17(-322.5,-1135) 3-19(-372.5,-1135) 3-21(-422.5,-1135) 3-23(-472.5,-1135) 3-25(-522.5,-1135) 3-27(-572.5,-1135) 3-29(-622.5,-1135) 3-31(-672.5,-1135) 3-33(-722.5,-1135) 3-35(-772.5,-1135) 3-37(-822.5,-1135) 3-39(-872.5,-1135) LCD-1(77.5,965) LCD-2(77.5,1125) LCD-3(27.5,965) LCD-4(27.5,1125) LCD-5(-22.5,965) LCD-6(-22.5,1125) LCD-7(-72.5,965) LCD-8(-72.5,1125) LCD-9(-122.5,965) LCD-10(-122.5,1125) LCD-11(-172.5,965) LCD-12(-172.5,1125) LCD-13(-222.5,965) LCD-14(-222.5,1125) LCD-15(-272.5,965) LCD-16(-272.5,1125) LCD-17(-322.5,965) LCD-18(-322.5,1125) LCD-19(-372.5,965) LCD-20(-372.5,1125) LCD-21(-422.5,965) LCD-22(-422.5,1125) LCD-23(-472.5,965) LCD-24(-472.5,1125) LCD-25(-522.5,965) LCD-26(-522.5,1125) LCD-27(-572.5,965) LCD-28(-572.5,1125) LCD-29(-622.5,965) LCD-30(-622.5,1125) LCD-31(-672.5,965) LCD-32(-672.5,1125) LCD-33(-722.5,965) LCD-34(-722.5,1125) LCD-35(-772.5,965) LCD-36(-772.5,1125) LCD-37(-822.5,965) LCD-38(-822.5,1125) LCD-39(-872.5,965) LCD-40(-872.5,1125)
  rect 71x28 smd: 4-1(712.5,685) 4-2(872.5,685) 4-3(712.5,735) 4-4(872.5,735) 4-5(712.5,785) 4-6(872.5,785) 4-7(712.5,835) 4-8(872.5,835) 4-9(712.5,885) 4-10(872.5,885) 4-11(712.5,935) 4-12(872.5,935) 4-13(712.5,985) 4-14(872.5,985) 4-15(712.5,1035) 4-16(872.5,1035) 4-17(712.5,1085) 4-18(872.5,1085) 4-19(712.5,1135) 4-20(872.5,1135)
  rect 71x28 smd far side: 4-1(712.5,685) 4-2(872.5,685) 4-3(712.5,735) 4-4(872.5,735) 4-5(712.5,785) 4-6(872.5,785) 4-7(712.5,835) 4-8(872.5,835) 4-9(712.5,885) 4-10(872.5,885) 4-11(712.5,935) 4-12(872.5,935) 4-13(712.5,985) 4-14(872.5,985) 4-15(712.5,1035) 4-16(872.5,1035) 4-17(712.5,1085) 4-18(872.5,1085) 4-19(712.5,1135) 4-20(872.5,1135)
Top Overlay:
  lines w10: -1202.5,-1180 659.5,-1180 912.5,-1180 ; -1202.5,1165 912.5,1165 ; -892.5,-1115 -897.5,-1115 -897.5,-1055 -897.5,-995 -892.5,-995 ; -892.5,985 -897.5,985 -897.5,1045 -897.5,1105 -892.5,1105 ; -617.5,-865 -622.5,-865 -622.5,-805 -622.5,-745 -617.5,-745 ; -617.5,735 -622.5,735 -622.5,795 -622.5,855 -617.5,855 ; 97.5,-1115 102.5,-1115 102.5,-1055 102.5,-995 97.5,-995 ; 97.5,985 102.5,985 102.5,1045 102.5,1105 97.5,1105 ; 372.5,-865 377.5,-865 377.5,-805 377.5,-745 372.5,-745 ; 372.5,735 377.5,735 377.5,795 377.5,855 372.5,855 ; 732.5,665 732.5,660 792.5,660 852.5,660 852.5,665 ; 732.5,1155 732.5,1160 792.5,1160 852.5,1160 852.5,1155
  text "1" at 693.09,636.81 h62
  text "2" at 860.41,638.78 h62
  text "G2" at 763.48,607.4 h62
  text "1" at 125.69,945.59 h62
  text "2" at 123.72,1112.91 h62
  text "LCD" at 115.85,1030.63 h62
  text "1" at 400.69,695.59 h62
  text "2" at 398.72,862.91 h62
  text "G1" at 391.44,778.66 h62
  text "1" at 400.69,-904.41 h62
  text "2" at 398.72,-737.09 h62
  text "G2" at 391.44,-821.73 h62
  text "G3" at 115.85,-1073.7 h62
  text "2" at 123.72,-987.09 h62
  text "1" at 125.69,-1154.41 h62
Keep-Out Layer:
  lines w10: -1202.5,-1180 -1202.5,1165 ; 912.5,-1180 912.5,1165
Mechanical 16:
  drawing of 180 lines, arcs and shapes, not listed

## OLinuXino2 - T+B [mil] "Olinuxino inner dimension"
pads (580):
  round 28 hole 28: 1(-847.5,-1055) 1(-847.5,1045) 1(-572.5,-805) 1(-572.5,795) 1(52.5,-1055) 1(52.5,1045) 1(327.5,-805) 1(327.5,795) 1(792.5,710) 1(792.5,1110) 1(49230,50070) 1(49230,52170) 1(49505,50320) 1(49505,51920) 1(50130,50070) 1(50130,52170) 1(50405,50320) 1(50405,51920) 1(50870,51835) 1(50870,52235)
  rect 28x71 smd: 1-1(352.5,715) 1-1(50430,51840) 1-2(352.5,875) 1-2(50430,52000) 1-3(302.5,715) 1-3(50380,51840) 1-4(302.5,875) 1-4(50380,52000) 1-5(252.5,715) 1-5(50330,51840) 1-6(252.5,875) 1-6(50330,52000) 1-7(202.5,715) 1-7(50280,51840) 1-8(202.5,875) 1-8(50280,52000) 1-9(152.5,715) 1-9(50230,51840) 1-10(152.5,875) 1-10(50230,52000) 1-11(102.5,715) 1-11(50180,51840) 1-12(102.5,875) 1-12(50180,52000) 1-13(52.5,715) 1-13(50130,51840) 1-14(52.5,875) 1-14(50130,52000) 1-15(2.5,715) 1-15(50080,51840) 1-16(2.5,875) 1-16(50080,52000) 1-17(-47.5,715) 1-17(50030,51840) 1-18(-47.5,875) 1-18(50030,52000) 1-19(-97.5,715) 1-19(49980,51840) 1-20(-97.5,875) 1-20(49980,52000) 1-21(-147.5,715) 1-21(49930,51840) 1-22(-147.5,875) 1-22(49930,52000) 1-23(-197.5,715) 1-23(49880,51840) 1-24(-197.5,875) 1-24(49880,52000) 1-25(-247.5,715) 1-25(49830,51840) 1-26(-247.5,875) 1-26(49830,52000) 1-27(-297.5,715) 1-27(49780,51840) 1-28(-297.5,875) 1-28(49780,52000) 1-29(-347.5,715) 1-29(49730,51840) 1-30(-347.5,875) 1-30(49730,52000) 1-31(-397.5,715) 1-31(49680,51840) 1-32(-397.5,875) 1-32(49680,52000) 1-33(-447.5,715) 1-33(49630,51840) 1-34(-447.5,875) 1-34(49630,52000) 1-35(-497.5,715) 1-35(49580,51840) 1-36(-497.5,875) 1-36(49580,52000) 1-37(-547.5,715) 1-37(49530,51840) 1-38(-547.5,875) 1-38(49530,52000) 1-39(-597.5,715) 1-39(49480,51840) 1-40(-597.5,875) 1-40(49480,52000) 2-1(352.5,-885) 2-1(50430,50240) 2-2(352.5,-725) 2-2(50430,50400) 2-3(302.5,-885) 2-3(50380,50240) 2-4(302.5,-725) 2-4(50380,50400) 2-5(252.5,-885) 2-5(50330,50240) 2-6(252.5,-725) 2-6(50330,50400) 2-7(202.5,-885) 2-7(50280,50240) 2-8(202.5,-725) 2-8(50280,50400) 2-9(152.5,-885) 2-9(50230,50240) 2-10(152.5,-725) 2-10(50230,50400) 2-11(102.5,-885) 2-11(50180,50240) 2-12(102.5,-725) 2-12(50180,50400) 2-13(52.5,-885) 2-13(50130,50240) 2-14(52.5,-725) 2-14(50130,50400) 2-15(2.5,-885) 2-15(50080,50240) 2-16(2.5,-725) 2-16(50080,50400) 2-17(-47.5,-885) 2-17(50030,50240) 2-18(-47.5,-725) 2-18(50030,50400) 2-19(-97.5,-885) 2-19(49980,50240) 2-20(-97.5,-725) 2-20(49980,50400) 2-21(-147.5,-885) 2-21(49930,50240) 2-22(-147.5,-725) 2-22(49930,50400) 2-23(-197.5,-885) 2-23(49880,50240) 2-24(-197.5,-725) 2-24(49880,50400) 2-25(-247.5,-885) 2-25(49830,50240) 2-26(-247.5,-725) 2-26(49830,50400) 2-27(-297.5,-885) 2-27(49780,50240) 2-28(-297.5,-725) 2-28(49780,50400) 2-29(-347.5,-885) 2-29(49730,50240) 2-30(-347.5,-725) 2-30(49730,50400) 2-31(-397.5,-885) 2-31(49680,50240) 2-32(-397.5,-725) 2-32(49680,50400) 2-33(-447.5,-885) 2-33(49630,50240) 2-34(-447.5,-725) 2-34(49630,50400) 2-35(-497.5,-885) 2-35(49580,50240) 2-36(-497.5,-725) 2-36(49580,50400) 2-37(-547.5,-885) 2-37(49530,50240) 2-38(-547.5,-725) 2-38(49530,50400) 2-39(-597.5,-885) 2-39(49480,50240) 2-40(-597.5,-725) 2-40(49480,50400) 3-1(77.5,-1135) 3-1(50155,49990) 3-2(77.5,-975) 3-2(50155,50150) 3-3(27.5,-1135) 3-3(50105,49990) 3-4(27.5,-975) 3-4(50105,50150) 3-5(-22.5,-1135) 3-5(50055,49990) 3-6(-22.5,-975) 3-6(50055,50150) 3-7(-72.5,-1135) 3-7(50005,49990) 3-8(-72.5,-975) 3-8(50005,50150) 3-9(-122.5,-1135) 3-9(49955,49990) 3-10(-122.5,-975) 3-10(49955,50150) 3-11(-172.5,-1135) 3-11(49905,49990) 3-12(-172.5,-975) 3-12(49905,50150) 3-13(-222.5,-1135) 3-13(49855,49990) 3-14(-222.5,-975) 3-14(49855,50150) 3-15(-272.5,-1135) 3-15(49805,49990) 3-16(-272.5,-975) 3-16(49805,50150) 3-17(-322.5,-1135) 3-17(49755,49990) 3-18(-322.5,-975) 3-18(49755,50150) 3-19(-372.5,-1135) 3-19(49705,49990) 3-20(-372.5,-975) 3-20(49705,50150) 3-21(-422.5,-1135) 3-21(49655,49990) 3-22(-422.5,-975) 3-22(49655,50150) 3-23(-472.5,-1135) 3-23(49605,49990) 3-24(-472.5,-975) 3-24(49605,50150) 3-25(-522.5,-1135) 3-25(49555,49990) 3-26(-522.5,-975) 3-26(49555,50150) 3-27(-572.5,-1135) 3-27(49505,49990) 3-28(-572.5,-975) 3-28(49505,50150) 3-29(-622.5,-1135) 3-29(49455,49990) 3-30(-622.5,-975) 3-30(49455,50150) 3-31(-672.5,-1135) 3-31(49405,49990) 3-32(-672.5,-975) 3-32(49405,50150) 3-33(-722.5,-1135) 3-33(49355,49990) 3-34(-722.5,-975) 3-34(49355,50150) 3-35(-772.5,-1135) 3-35(49305,49990) 3-36(-772.5,-975) 3-36(49305,50150) 3-37(-822.5,-1135) 3-37(49255,49990) 3-38(-822.5,-975) 3-38(49255,50150) 3-39(-872.5,-1135) 3-39(49205,49990) 3-40(-872.5,-975) 3-40(49205,50150) LCD-1(77.5,965) LCD-1(50155,52090) LCD-2(77.5,1125) LCD-2(50155,52250) LCD-3(27.5,965) LCD-3(50105,52090) LCD-4(27.5,1125) LCD-4(50105,52250) LCD-5(-22.5,965) LCD-5(50055,52090) LCD-6(-22.5,1125) LCD-6(50055,52250) LCD-7(-72.5,965) LCD-7(50005,52090) LCD-8(-72.5,1125) LCD-8(50005,52250) LCD-9(-122.5,965) LCD-9(49955,52090) LCD-10(-122.5,1125) LCD-10(49955,52250) LCD-11(-172.5,965) LCD-11(49905,52090) LCD-12(-172.5,1125) LCD-12(49905,52250) LCD-13(-222.5,965) LCD-13(49855,52090) LCD-14(-222.5,1125) LCD-14(49855,52250) LCD-15(-272.5,965) LCD-15(49805,52090) LCD-16(-272.5,1125) LCD-16(49805,52250) LCD-17(-322.5,965) LCD-17(49755,52090) LCD-18(-322.5,1125) LCD-18(49755,52250) LCD-19(-372.5,965) LCD-19(49705,52090) LCD-20(-372.5,1125) LCD-20(49705,52250) LCD-21(-422.5,965) LCD-21(49655,52090) LCD-22(-422.5,1125) LCD-22(49655,52250) LCD-23(-472.5,965) LCD-23(49605,52090) LCD-24(-472.5,1125) LCD-24(49605,52250) LCD-25(-522.5,965) LCD-25(49555,52090) LCD-26(-522.5,1125) LCD-26(49555,52250) LCD-27(-572.5,965) LCD-27(49505,52090) LCD-28(-572.5,1125) LCD-28(49505,52250) LCD-29(-622.5,965) LCD-29(49455,52090) LCD-30(-622.5,1125) LCD-30(49455,52250) LCD-31(-672.5,965) LCD-31(49405,52090) LCD-32(-672.5,1125) LCD-32(49405,52250) LCD-33(-722.5,965) LCD-33(49355,52090) LCD-34(-722.5,1125) LCD-34(49355,52250) LCD-35(-772.5,965) LCD-35(49305,52090) LCD-36(-772.5,1125) LCD-36(49305,52250) LCD-37(-822.5,965) LCD-37(49255,52090) LCD-38(-822.5,1125) LCD-38(49255,52250) LCD-39(-872.5,965) LCD-39(49205,52090) LCD-40(-872.5,1125) LCD-40(49205,52250)
  rect 28x71 smd far side: 1-1(352.5,715) 1-1(50430,51840) 1-2(352.5,875) 1-2(50430,52000) 1-3(302.5,715) 1-3(50380,51840) 1-4(302.5,875) 1-4(50380,52000) 1-5(252.5,715) 1-5(50330,51840) 1-6(252.5,875) 1-6(50330,52000) 1-7(202.5,715) 1-7(50280,51840) 1-8(202.5,875) 1-8(50280,52000) 1-9(152.5,715) 1-9(50230,51840) 1-10(152.5,875) 1-10(50230,52000) 1-11(102.5,715) 1-11(50180,51840) 1-12(102.5,875) 1-12(50180,52000) 1-13(52.5,715) 1-13(50130,51840) 1-14(52.5,875) 1-14(50130,52000) 1-15(2.5,715) 1-15(50080,51840) 1-16(2.5,875) 1-16(50080,52000) 1-17(-47.5,715) 1-17(50030,51840) 1-18(-47.5,875) 1-18(50030,52000) 1-19(-97.5,715) 1-19(49980,51840) 1-20(-97.5,875) 1-20(49980,52000) 1-21(-147.5,715) 1-21(49930,51840) 1-22(-147.5,875) 1-22(49930,52000) 1-23(-197.5,715) 1-23(49880,51840) 1-24(-197.5,875) 1-24(49880,52000) 1-25(-247.5,715) 1-25(49830,51840) 1-26(-247.5,875) 1-26(49830,52000) 1-27(-297.5,715) 1-27(49780,51840) 1-28(-297.5,875) 1-28(49780,52000) 1-29(-347.5,715) 1-29(49730,51840) 1-30(-347.5,875) 1-30(49730,52000) 1-31(-397.5,715) 1-31(49680,51840) 1-32(-397.5,875) 1-32(49680,52000) 1-33(-447.5,715) 1-33(49630,51840) 1-34(-447.5,875) 1-34(49630,52000) 1-35(-497.5,715) 1-35(49580,51840) 1-36(-497.5,875) 1-36(49580,52000) 1-37(-547.5,715) 1-37(49530,51840) 1-38(-547.5,875) 1-38(49530,52000) 1-39(-597.5,715) 1-39(49480,51840) 1-40(-597.5,875) 1-40(49480,52000) LCD-1(77.5,965) LCD-1(50155,52090) LCD-2(77.5,1125) LCD-2(50155,52250) LCD-3(27.5,965) LCD-3(50105,52090) LCD-4(27.5,1125) LCD-4(50105,52250) LCD-5(-22.5,965) LCD-5(50055,52090) LCD-6(-22.5,1125) LCD-6(50055,52250) LCD-7(-72.5,965) LCD-7(50005,52090) LCD-8(-72.5,1125) LCD-8(50005,52250) LCD-9(-122.5,965) LCD-9(49955,52090) LCD-10(-122.5,1125) LCD-10(49955,52250) LCD-11(-172.5,965) LCD-11(49905,52090) LCD-12(-172.5,1125) LCD-12(49905,52250) LCD-13(-222.5,965) LCD-13(49855,52090) LCD-14(-222.5,1125) LCD-14(49855,52250) LCD-15(-272.5,965) LCD-15(49805,52090) LCD-16(-272.5,1125) LCD-16(49805,52250) LCD-17(-322.5,965) LCD-17(49755,52090) LCD-18(-322.5,1125) LCD-18(49755,52250) LCD-19(-372.5,965) LCD-19(49705,52090) LCD-20(-372.5,1125) LCD-20(49705,52250) LCD-21(-422.5,965) LCD-21(49655,52090) LCD-22(-422.5,1125) LCD-22(49655,52250) LCD-23(-472.5,965) LCD-23(49605,52090) LCD-24(-472.5,1125) LCD-24(49605,52250) LCD-25(-522.5,965) LCD-25(49555,52090) LCD-26(-522.5,1125) LCD-26(49555,52250) LCD-27(-572.5,965) LCD-27(49505,52090) LCD-28(-572.5,1125) LCD-28(49505,52250) LCD-29(-622.5,965) LCD-29(49455,52090) LCD-30(-622.5,1125) LCD-30(49455,52250) LCD-31(-672.5,965) LCD-31(49405,52090) LCD-32(-672.5,1125) LCD-32(49405,52250) LCD-33(-722.5,965) LCD-33(49355,52090) LCD-34(-722.5,1125) LCD-34(49355,52250) LCD-35(-772.5,965) LCD-35(49305,52090) LCD-36(-772.5,1125) LCD-36(49305,52250) LCD-37(-822.5,965) LCD-37(49255,52090) LCD-38(-822.5,1125) LCD-38(49255,52250) LCD-39(-872.5,965) LCD-39(49205,52090) LCD-40(-872.5,1125) LCD-40(49205,52250)
  rect 71x28 smd: 4-1(712.5,685) 4-1(50790,51810) 4-2(872.5,685) 4-2(50950,51810) 4-3(712.5,735) 4-3(50790,51860) 4-4(872.5,735) 4-4(50950,51860) 4-5(712.5,785) 4-5(50790,51910) 4-6(872.5,785) 4-6(50950,51910) 4-7(712.5,835) 4-7(50790,51960) 4-8(872.5,835) 4-8(50950,51960) 4-9(712.5,885) 4-9(50790,52010) 4-10(872.5,885) 4-10(50950,52010) 4-11(712.5,935) 4-11(50790,52060) 4-12(872.5,935) 4-12(50950,52060) 4-13(712.5,985) 4-13(50790,52110) 4-14(872.5,985) 4-14(50950,52110) 4-15(712.5,1035) 4-15(50790,52160) 4-16(872.5,1035) 4-16(50950,52160) 4-17(712.5,1085) 4-17(50790,52210) 4-18(872.5,1085) 4-18(50950,52210) 4-19(712.5,1135) 4-19(50790,52260) 4-20(872.5,1135) 4-20(50950,52260)
  rect 71x28 smd far side: 4-1(712.5,685) 4-1(50790,51810) 4-2(872.5,685) 4-2(50950,51810) 4-3(712.5,735) 4-3(50790,51860) 4-4(872.5,735) 4-4(50950,51860) 4-5(712.5,785) 4-5(50790,51910) 4-6(872.5,785) 4-6(50950,51910) 4-7(712.5,835) 4-7(50790,51960) 4-8(872.5,835) 4-8(50950,51960) 4-9(712.5,885) 4-9(50790,52010) 4-10(872.5,885) 4-10(50950,52010) 4-11(712.5,935) 4-11(50790,52060) 4-12(872.5,935) 4-12(50950,52060) 4-13(712.5,985) 4-13(50790,52110) 4-14(872.5,985) 4-14(50950,52110) 4-15(712.5,1035) 4-15(50790,52160) 4-16(872.5,1035) 4-16(50950,52160) 4-17(712.5,1085) 4-17(50790,52210) 4-18(872.5,1085) 4-18(50950,52210) 4-19(712.5,1135) 4-19(50790,52260) 4-20(872.5,1135) 4-20(50950,52260)
Top Overlay:
  lines w10: -1202.5,-1180 659.5,-1180 912.5,-1180 ; -1202.5,1165 912.5,1165 ; -892.5,-1115 -897.5,-1115 -897.5,-1055 -897.5,-995 -892.5,-995 ; -892.5,985 -897.5,985 -897.5,1045 -897.5,1105 -892.5,1105 ; -617.5,-865 -622.5,-865 -622.5,-805 -622.5,-745 -617.5,-745 ; -617.5,735 -622.5,735 -622.5,795 -622.5,855 -617.5,855 ; 97.5,-1115 102.5,-1115 102.5,-1055 102.5,-995 97.5,-995 ; 97.5,985 102.5,985 102.5,1045 102.5,1105 97.5,1105 ; 372.5,-865 377.5,-865 377.5,-805 377.5,-745 372.5,-745 ; 372.5,735 377.5,735 377.5,795 377.5,855 372.5,855 ; 732.5,665 732.5,660 792.5,660 852.5,660 852.5,665 ; 732.5,1155 732.5,1160 792.5,1160 852.5,1160 852.5,1155 ; 48875,49945 50737,49945 50990,49945 ; 48875,52290 50990,52290 ; 49185,50010 49180,50010 49180,50070 49180,50130 49185,50130 ; 49185,52110 49180,52110 49180,52170 49180,52230 49185,52230 ; 49460,50260 49455,50260 49455,50320 49455,50380 49460,50380 ; 49460,51860 49455,51860 49455,51920 49455,51980 49460,51980 ; 50175,50010 50180,50010 50180,50070 50180,50130 50175,50130 ; 50175,52110 50180,52110 50180,52170 50180,52230 50175,52230 ; 50450,50260 50455,50260 50455,50320 50455,50380 50450,50380 ; 50450,51860 50455,51860 50455,51920 50455,51980 50450,51980 ; 50810,51790 50810,51785 50870,51785 50930,51785 50930,51790 ; 50810,52280 50810,52285 50870,52285 50930,52285 50930,52280
  text "1" at 50203.19,49970.59 h62
  text "2" at 50201.22,50137.91 h62
  text "G3" at 50193.35,50051.3 h62
  text "G2" at 50468.94,50303.27 h62
  text "2" at 50476.22,50387.91 h62
  text "1" at 50478.19,50220.59 h62
  text "G1" at 50468.94,51903.66 h62
  text "2" at 50476.22,51987.91 h62
  text "1" at 50478.19,51820.59 h62
  text "LCD" at 50193.35,52155.63 h62
  text "2" at 50201.22,52237.91 h62
  text "1" at 50203.19,52070.59 h62
  text "G2" at 50840.98,51732.4 h62
  text "2" at 50937.91,51763.78 h62
  text "1" at 50770.59,51761.81 h62
  text "1" at 693.09,636.81 h62
  text "2" at 860.41,638.78 h62
  text "G2" at 763.48,607.4 h62
  text "1" at 125.69,945.59 h62
  text "2" at 123.72,1112.91 h62
  text "LCD" at 115.85,1030.63 h62
  text "1" at 400.69,695.59 h62
  text "2" at 398.72,862.91 h62
  text "G1" at 391.44,778.66 h62
  text "1" at 400.69,-904.41 h62
  text "2" at 398.72,-737.09 h62
  text "G2" at 391.44,-821.73 h62
  text "G3" at 115.85,-1073.7 h62
  text "2" at 123.72,-987.09 h62
  text "1" at 125.69,-1154.41 h62
Keep-Out Layer:
  lines w10: -1202.5,-1180 -1202.5,1165 ; 912.5,-1180 912.5,1165 ; 48875,49945 48875,52290 ; 50990,49945 50990,52290
Mechanical 16:
  drawing of 360 lines, arcs and shapes, not listed

## RJ45 TRAFO [mm] "RJ45 w transformer"
pads (12):
  round 1.8 hole 0.9: 1(-4.445,14.829) 2(-3.175,17.369) 3(-1.905,14.829) 4(-0.635,17.369) 5(0.635,14.829) 6(1.905,17.369) 7(3.175,14.829) 8(4.445,17.369)
  round 2.65 hole 1.5: MH1(-7.747,11.527) MH2(7.747,11.527)
  round 2.95 hole 3.25: MH3(-5.715,8.479) MH4(5.715,8.479)
Top Overlay:
  lines w0.254: -8,0 -8,3.654 ; -8,7.154 -8,18.9 8,18.9 8,7.154 8,-2.2 7.9,-2.3 -8,-2.3 -8,8.5
3D body: height 16.51, standoff 0, extent -8,-2.3 8.002,18.7

## Rlad [mm] "4x0603"
pads (8):
  rect 0.6x0.5 smd: 1(-0.8,1.2) 2(0.8,1.2) 3(-0.8,0.4) 4(0.8,0.4) 5(-0.8,-0.4) 6(0.8,-0.4) 7(-0.8,-1.2) 8(0.8,-1.2)
Top Overlay:
  circle w0.2: c-1,1.8 r0.1
  lines w0.2: -0.7,-1.6 0.8,-1.6 ; -0.7,1.6 0.8,1.6

## SLP2510P8 [mm] "Semtech array ESD package"
height 0.65
pads (9):
  rect 0.2x0.675 smd mask+0.038: 1(-1,-0.437) 2(-0.5,-0.437) 4(0.5,-0.437) 5(1,-0.437) 6(1,0.438) 7(0.5,0.437) 9(-0.5,0.437) 10(-1,0.437)
  rect 0.4x1.55 smd mask+0.038: 3(0,0)
Top Overlay:
  circle w0.2: c-1.5,-1.3 r0.1
  lines w0.2: -1.4,0.6 -1.4,-1 -1.2,-1.2 -0.5,-1.2 ; 1.4,-0.6 1.4,0.6
3D body: height 0.65, standoff 0, extent -1.3,-0.6 1.3,0.6